# Altium schematic symbol library Schlib1.SchLib: 1 symbol
Pins are listed as number, name and electrical type; pins without a type are passive.

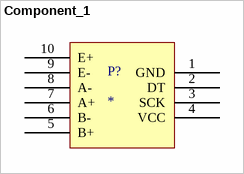
[diagram p0: symbol Component_1]

## Component_1
designator P?
footprint PCBComponent_1
pins: 1 GND, 2 DT, 3 SCK, 4 VCC, 5 B+, 6 B-, 7 A+, 8 A-, 9 E-, 10 E+